# EAGLE library part GPS_ADAFRUIT (library GFE)
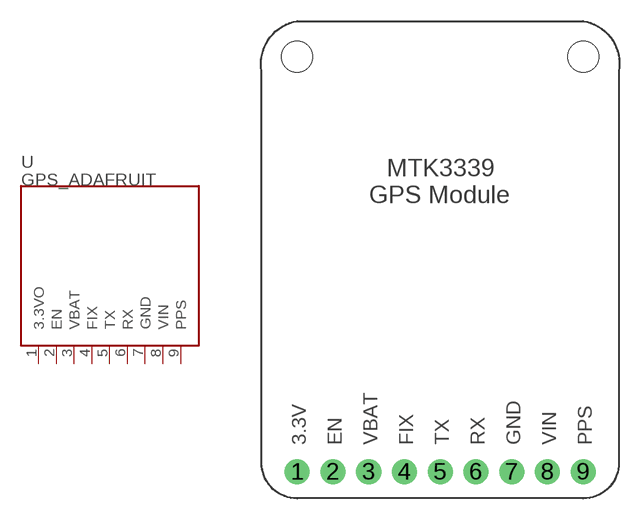
[diagram p4: symbol with the pads of GPS_ADAFRUIT; footprint GPS_ADAFRUIT]

Designator prefix U

## GPS_ADAFRUIT  [GPS_ADAFRUIT]
1  3.3VO
2  EN
3  VBAT
4  FIX
5  TX
6  RX
7  GND
8  VIN
9  PPS

## Footprint GPS_ADAFRUIT (pad centres in mm)
drill 1 pad 1.778: 1 -10.16,-14.605; 2 -7.62,-14.605; 3 -5.08,-14.605; 4 -2.54,-14.605; 5 0,-14.605; 6 2.54,-14.605; 7 5.08,-14.605; 8 7.62,-14.605; 9 10.16,-14.605
hole 2.2 at -10.16,14.875
hole 2.2 at 10.16,14.875